# Altium schematic symbol library PIC24FJxxGA102.Schlib: 1 symbol
Pins are listed as number, name and electrical type; pins without a type are passive.

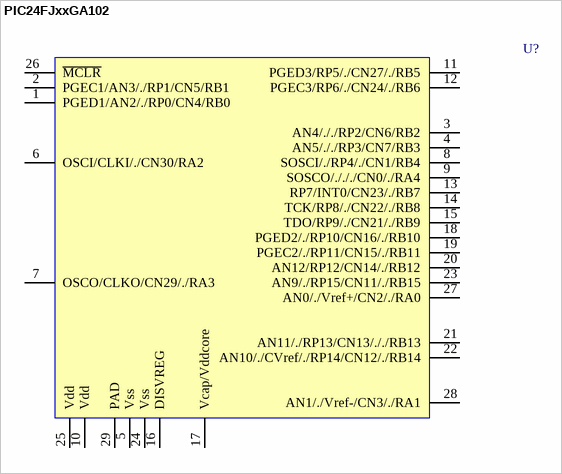
[diagram p0: symbol PIC24FJxxGA102]

## PIC24FJxxGA102
designator U?
IC, Microcontroller
pins: 1 PGED1/AN2/./RP0/CN4/RB0, 2 PGEC1/AN3/./RP1/CN5/RB1, 3 AN4/././RP2/CN6/RB2, 4 AN5/././RP3/CN7/RB3, 5 Vss, 6 OSCI/CLKI/./CN30/RA2, 7 OSCO/CLKO/CN29/./RA3, 8 SOSCI/./RP4/./CN1/RB4, 9 SOSCO/./././CN0/./RA4, 10 Vdd, 11 PGED3/RP5/./CN27/./RB5, 12 PGEC3/RP6/./CN24/./RB6, 13 RP7/INT0/CN23/./RB7, 14 TCK/RP8/./CN22/./RB8, 15 TDO/RP9/./CN21/./RB9, 16 DISVREG (power), 17 Vcap/Vddcore (power), 18 PGED2/./RP10/CN16/./RB10, 19 PGEC2/./RP11/CN15/./RB11, 20 AN12/RP12/CN14/./RB12, 21 AN11/./RP13/CN13/././RB13, 22 AN10/./CVref/./RP14/CN12/./RB14, 23 AN9/./RP15/CN11/./RB15, 24 Vss, 25 Vdd, 26 ~{MCLR}, 27 AN0/./Vref+/CN2/./RA0, 28 AN1/./Vref-/CN3/./RA1 (power), 29 PAD (power)